# Altium schematic symbol library QCW_GDT_PCB.SCHLIB: 28 symbols
Pins are listed as number, name and electrical type; pins without a type are passive.

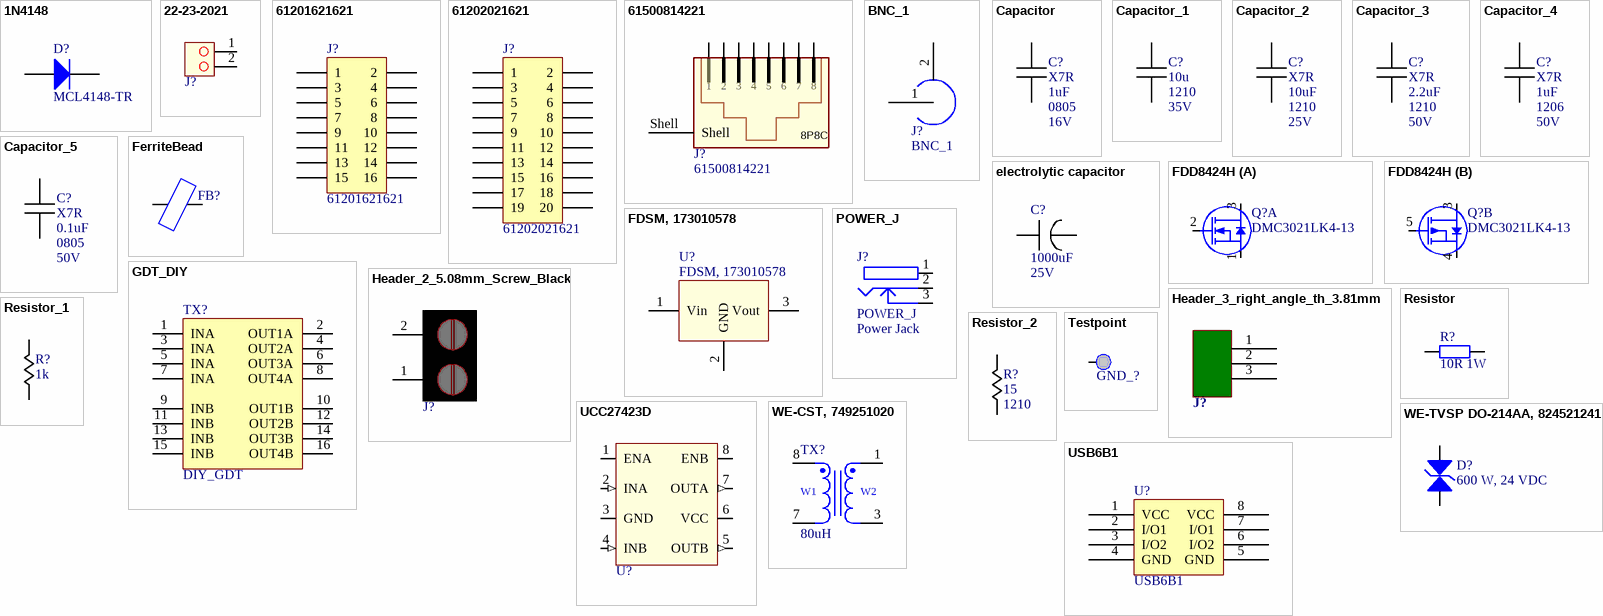
[diagram p0: symbols 1N4148 to WE-TVSP DO-214AA, 824521241]

## 1N4148
designator D?, comment MCL4148-TR
DIODE GEN 75V 150MA MICROMELF; Mouser Part: 78-MCL4148; Digikey Part: MCL4148CT-ND
footprint MicroMELF (MELF Diode, 2-Leads, Body 1.9x1.2mm, IPC Medium Density)
pins: A, K

## 22-23-2021
designator J?  (value not drawn)
Pin Header, 2 Position, Locking, .1 Centers
footprint 22-23-2021
pins: 1, 2

## 61201621621
designator J?
WR-BHD 2.54mm Male Box Header; Manufacturer: Wurth Elektronik; ComponentLink1 Description: Manufacturer; ComponentLink2 Description: Datasheet; NoPins: 16; Created Date: March 2016; partNo: 61201621621; ComponentLink1URL: http://www.we-online.com; ComponentLink2URL: http://katalog.we-online.de/em/datasheet/6120xx21621.pdf; Created by: Baojun Chen
footprint 61201621621 (16 pins, straight, gold plating)
pins: 1, 2, 3, 4, 5, 6, 7, 8, 9, 10, 11, 12, 13, 14, 15, 16

## 61202021621
designator J?
WR-BHD 2.54mm Male Box Header; Manufacturer: Wurth Elektronik; ComponentLink1 Description: Manufacturer; ComponentLink2 Description: Datasheet; NoPins: 20; Created Date: March 2016; partNo: 61202021621; ComponentLink1URL: http://www.we-online.com; ComponentLink2URL: http://katalog.we-online.de/em/datasheet/6120xx21621.pdf; Created by: Baojun Chen
footprint 61202021621 (20 pins, straight, gold plating)
pins: 1, 2, 3, 4, 5, 6, 7, 8, 9, 10, 11, 12, 13, 14, 15, 16, 17, 18, 19, 20

## 61500814221
designator J?
WR-MJ Modular Jack Horizontal Shielded 8P8C Tab Down; PublishedDate: July 2016; Publisher: Wurth Elektronik; ComponentLink1Description: Manufacturer; ComponentLink1URL: http://www.we-online.de; ComponentLink2Description: Datasheet; ComponentLink2URL: http://katalog.we-online.de/em/datasheet/61500814221.pdf; PartNumber: 61500814221; PinNumber: 8P8C
footprint 61500814221 (RJ45 Horizontal  Shielded  Tab down)
pins: 1, 2, 3, 4, 5, 6, 7, 8, Shell

## BNC_1
designator J?
BNC Connector; Value: =Value
footprint BNC_PLASTIC_ELBOW_SOCKET_WITH_MOUNTING_POSTS (Coaxial Connector, BNC Coaxial, Right Angle Jack, Solder)
pins: 1 Centre, 2 Shield

## Capacitor
designator C?, comment Material: X7R  Capacitance: 1uF  Package: 0805  Voltage: 16V  (hidden comment: CC0805KKX7R7BB105)
CAP CER 1UF 16V X7R 0805; Tolerance: 10%; Mouser Part: 603-CC805KKX7R7BB105; Digikey Part: 311-1365-1-ND
footprint 0402 (Chip Capacitor; Body 1.0 x 0.5 mm (LxW typ))
footprint 0603 (Chip Capacitor; Body 1.6 x 0.8 mm (LxW typ))
footprint 0805 (Chip Capacitor; Body 2.0 x 1.2 mm (LxW typ))
footprint 1206 (Chip Capacitor; Body 3.2 x 1.6 mm (LxW typ))
footprint 1210 (Chip Capacitor; Body 3.2 x 2.5 mm (LxW typ))
footprint 1812 (Chip Capacitor; Body 4.5 x 3.2 mm (LxW typ))
footprint 1825 (Chip Capacitor; Body 4.5 x 6.4 mm (LxW typ))
footprint 2220 (Chip Capacitor; Body 5.7 x 5.0 mm (LxW typ))
footprint 2225 (Chip Capacitor; Body 5.6 x 6.4 mm (LxW typ))
footprint 0805C
footprint 1206C
pins: 1, 2

## Capacitor_1
designator C?, comment Capacitance: 10u  package: 1210  voltage: 35V  (hidden comment: 885012209028)
tolerance: *; type: *; material: *
footprint 0805C
footprint 1210C (Chip Capacitor, 2-Leads, Body 3.2x2.5mm, IPC Medium Density)
footprint 1206C
footprint 2220C (Chip Capacitor, 2-Leads, Body 5.70x5.00mm, IPC Low Density)
footprint 1812C (Chip Capacitor, 2-Leads, Body 4.50x3.20mm, IPC Low Density)
footprint Cap_multi_footprint (Multiple footprint capacitor)
pins: 1, 2

## Capacitor_2
designator C?, comment Material: X7R  Capacitance: 10uF  Package: 1210  Voltage: 25V  (hidden comment: 885012209028)
CAP CER 10UF 25V X7R 1210; Tolerance: *; Mouser Part: 710-885012207094; Digikey Part: 732-7729-1-ND
footprint 0402 (Chip Capacitor; Body 1.0 x 0.5 mm (LxW typ))
footprint 0603 (Chip Capacitor; Body 1.6 x 0.8 mm (LxW typ))
footprint 0805 (Chip Capacitor; Body 2.0 x 1.2 mm (LxW typ))
footprint 1206 (Chip Capacitor; Body 3.2 x 1.6 mm (LxW typ))
footprint 1210C (Chip Capacitor, 2-Leads, Body 3.2x2.5mm, IPC Medium Density)
footprint 1812 (Chip Capacitor; Body 4.5 x 3.2 mm (LxW typ))
footprint 1825 (Chip Capacitor; Body 4.5 x 6.4 mm (LxW typ))
footprint 2220 (Chip Capacitor; Body 5.7 x 5.0 mm (LxW typ))
footprint 2225 (Chip Capacitor; Body 5.6 x 6.4 mm (LxW typ))
footprint 1206C
pins: 1, 2

## Capacitor_3
designator C?, comment Material: X7R  Capacitance: 2.2uF  Package: 1210  Voltage: 50V  (hidden comment: CGA6M3X7R1H225K200AB)
CAP ALUM 100UF 20% 16V RADIAL; Tolerance: 10%; Mouser Part: 810-CGA6M3X7R1H225K; Digikey Part: 445-5715-1-ND
footprint 0402 (Chip Capacitor; Body 1.0 x 0.5 mm (LxW typ))
footprint 0603 (Chip Capacitor; Body 1.6 x 0.8 mm (LxW typ))
footprint 0805 (Chip Capacitor; Body 2.0 x 1.2 mm (LxW typ))
footprint 1206 (Chip Capacitor; Body 3.2 x 1.6 mm (LxW typ))
footprint 1210 (Chip Capacitor; Body 3.2 x 2.5 mm (LxW typ))
footprint 1812 (Chip Capacitor; Body 4.5 x 3.2 mm (LxW typ))
footprint 1825 (Chip Capacitor; Body 4.5 x 6.4 mm (LxW typ))
footprint 2220 (Chip Capacitor; Body 5.7 x 5.0 mm (LxW typ))
footprint 2225 (Chip Capacitor; Body 5.6 x 6.4 mm (LxW typ))
footprint 1206C
footprint 1210C
pins: 1, 2

## Capacitor_4
designator C?, comment Material: X7R  Capacitance: 1uF  Package: 1206  Voltage: 50V  (hidden comment: GRM31MR71H105KA88L)
CAP CER 1UF 50V X7R 1206; Tolerance: 10%; Mouser Part: 81-GRM31MR71H105KA88; Digikey Part: 490-6527-1-ND
footprint 0402 (Chip Capacitor; Body 1.0 x 0.5 mm (LxW typ))
footprint 0603 (Chip Capacitor; Body 1.6 x 0.8 mm (LxW typ))
footprint 0805 (Chip Capacitor; Body 2.0 x 1.2 mm (LxW typ))
footprint 1206 (Chip Capacitor; Body 3.2 x 1.6 mm (LxW typ))
footprint 1210 (Chip Capacitor; Body 3.2 x 2.5 mm (LxW typ))
footprint 1812 (Chip Capacitor; Body 4.5 x 3.2 mm (LxW typ))
footprint 1825 (Chip Capacitor; Body 4.5 x 6.4 mm (LxW typ))
footprint 2220 (Chip Capacitor; Body 5.7 x 5.0 mm (LxW typ))
footprint 2225 (Chip Capacitor; Body 5.6 x 6.4 mm (LxW typ))
footprint 1206C
pins: 1, 2

## Capacitor_5
designator C?, comment Material: X7R  Capacitance: 0.1uF  Package: 0805  Voltage: 50V  (hidden comment: 08055C104JAT2A)
CAP CER 0.1UF 50V X7R 0805; Tolerance: *; Mouser Part: 581-08055C104J; Digikey Part: 478-3352-1-ND
footprint 0402 (Chip Capacitor; Body 1.0 x 0.5 mm (LxW typ))
footprint 0603 (Chip Capacitor; Body 1.6 x 0.8 mm (LxW typ))
footprint 0805 (Chip Capacitor; Body 2.0 x 1.2 mm (LxW typ))
footprint 1206 (Chip Capacitor; Body 3.2 x 1.6 mm (LxW typ))
footprint 1210C (Chip Capacitor, 2-Leads, Body 3.2x2.5mm, IPC Medium Density)
footprint 1812 (Chip Capacitor; Body 4.5 x 3.2 mm (LxW typ))
footprint 1825 (Chip Capacitor; Body 4.5 x 6.4 mm (LxW typ))
footprint 2220 (Chip Capacitor; Body 5.7 x 5.0 mm (LxW typ))
footprint 2225 (Chip Capacitor; Body 5.6 x 6.4 mm (LxW typ))
footprint 1206C
footprint 0805C
pins: 1, 2

## electrolytic capacitor
designator C?, comment Capacitance: 1000uF  Voltage: 25V  (hidden comment: EEU-FM1E102)
CAP ALUM 1000UF 20% 25V RADIAL; Mouser Part: 667-EEU-FM1E102; Digikey Part: P12379-ND
footprint B43231A9686M000
footprint 12.5mm lytic
footprint 5mm lytic
footprint 6.3MM LYTIC
pins: 1, 2

## FDD8424H
designator Q?, comment DMC3021LK4-13
MOSFET N/P-CH 30V TO252-4L; Mouser Part: 621-DMC3021LK4-13; Digikey Part: DMC3021LK4-13DICT-ND
footprint TO-252 (TO-252 PACKAGE)
part A pins: 1 S1, 2 G1, 3 D1/D2
part B pins: 3 D1/D2, 4 S2, 5 G2

## FDSM, 173010578
designator U?
MagI³C-FDSM Fixed Step Down Regulator Module; InputVoltage: 8-28V; OutputCurrent: 1A; PublishedDate: Aug 2016; Publisher: Wurth Elektronik; ComponentLink1Description: Manufacturer; ComponentLink1URL: http://www.we-online.de; ComponentLink2Description: Datasheet; ComponentLink2URL: http://katalog.we-online.de/pm/datasheet/173010578.pdf; PartNumber: 173010578; Size: SIP-3
footprint WE-FDSM_173010x78 (SIP-3, Body 11.6x8.5x10.5)
pins: 1 Vin, 2 GND, 3 Vout

## FerriteBead
designator FB?  (value not drawn)
Ferrite Bead
footprint 0805FB
pins: 1, 2

## GDT_DIY
designator TX?, comment DIY_GDT
DIY Gate Drive TX on 36x22x14 toroid
footprint GDT_DIY (DIY GDT with termination)
pins: 1 INA, 2 OUT1A, 3 INA, 4 OUT2A, 5 INA, 6 OUT3A, 7 INA, 8 OUT4A, 9 INB, 10 OUT1B, 11 INB, 12 OUT2B, 13 INB, 14 OUT3B, 15 INB, 16 OUT4B

## Header_2_5.08mm_Screw_Black
designator J?  (value not drawn)
2-way PCB connector; Value: =Value
footprint 1776119-2 (2 PIN PCB MOUNT WIRE TERMINAL Black)
pins: 1, 2

## Header_3_right_angle_th_3.81mm
designator J?  (value not drawn)
3-way header; Component_Replaceability: B; Component_Description: 3 Way right angle through hole 3.81mm header (green); Datasheet_Link: http://katalog.we-online.de/em/datasheet/6913223100xx.pdf; Digikey_Code: 732-2089-ND; Farnell_Code: 1642013; Category: Connectors
footprint 691322310003
pins: 1, 2, 3

## POWER_J
designator J?  value Power Jack
Low Voltage Power Supply Connector; Part_Number: OVC-CON-10108; Published: 17-Dec-2003; DatasheetDocument: 09-May-2002; Publisher: Altium Limited; ComponentLink1Description: Manufacturer Link; ComponentLink1URL: http://domino.kycon.com/internet/Products.html
footprint KLD-0202 (DC Power Jack, 2.5mm, KLD Series, PCB Mount)
signal-integrity model Connector
footprint POWER_J_SLOT
pins: 1 (power), 2 (power), 3 (power)

## Resistor
designator R?, comment 10R 1W
Power: *; Tolerance: *
footprint 1206R
footprint 1210R
footprint 0805R
footprint 0.5WTHResistor
footprint 2WTHResistor
footprint RES_2512 (Chip Resistor 2512, 2-Leads, Body 6.40x3.20mm, IPC Medium Density)
footprint Res_Radial_2W (2W resistor radial mount)
pins: 1, 2

## Resistor_1
designator R?, comment Resistance: 1k  (hidden comment: RC0805FR-071KL)
RES SMD 1K OHM 1% 1/8W 0805; Power: 0.125W; Package: 0805; Tolerance: 1%; Mouser Part: 603-RC0805FR-071KL; Digikey Part: 311-1.00KCRCT-ND
footprint 1/2W leaded (Footprint not found)
footprint 1206R
footprint 1210R
footprint 0805R
pins: 1, 2

## Resistor_2
designator R?, comment Resistance: 15  Package: 1210  (hidden comment: CRCW121015R0JNEAHP)
RES SMD 15 OHM 5% 3/4W 1210; Power: 750mW; Tolerance: 5%; Mouser Part: 71-CRCW121015R0JNEAH; Digikey Part: 541-15NCT-ND
footprint 0402 (Chip Capacitor; Body 1.0 x 0.5 mm (LxW typ))
footprint 0603 (Chip Capacitor; Body 1.6 x 0.8 mm (LxW typ))
footprint 0805 (Chip Capacitor; Body 2.0 x 1.2 mm (LxW typ))
footprint 1206 (Chip Capacitor; Body 3.2 x 1.6 mm (LxW typ))
footprint 1210 (Chip Capacitor; Body 3.2 x 2.5 mm (LxW typ))
footprint 1812 (Chip Capacitor; Body 4.5 x 3.2 mm (LxW typ))
footprint 1825 (Chip Capacitor; Body 4.5 x 6.4 mm (LxW typ))
footprint 2220 (Chip Capacitor; Body 5.7 x 5.0 mm (LxW typ))
footprint 2225 (Chip Capacitor; Body 5.6 x 6.4 mm (LxW typ))
footprint 1/2W leaded (Footprint not found)
footprint CMF60100R00JKEA (Resistor, 100 Ohm, 500V, 1/2W, 5%)
footprint 1206R
footprint 1210R
pins: 1, 2

## Testpoint
designator GND_?  (value not drawn)  (no BOM)
Digikey Part: *; Mouser Part: *
footprint testpoint (.1" header test point)
footprint Keystone5002 (Keystone 5002 White Testpoint)
footprint Keystone5001 (Keystone 5001 Black Testpoint)
footprint Keystone5016 (Keystone 5016 Green Testpoint)
footprint Keystone5000 (Keystone 5000 Red Testpoint)
footprint Keystone5003 (Keystone 5003 Orange Testpoint)
footprint Keystone5004 (Keystone 5004 Yellow Testpoint)
pins: 1

## UCC27423D
designator U?, comment MIC4126YME  (value not drawn)
IC DRIVER MOSFET 1.5A DUAL 8SOIC; Mouser Part: 998-MIC4126YME; Digikey Part: 576-1185-ND
footprint SOIC-8 (SOIC 8 PACKAGE)
pins: 1 ENA (power), 2 INA (in) "IN", 3 GND, 4 INB (in), 5 OUTB (out), 6 VCC, 7 OUTA (out), 8 ENB

## USB6B1
designator U?
USB Data Line Protection; Letechnic p/n: 6400026; Status: Fitted
footprint SOIC-8 (Tall SO-8)
pins: 1 VCC, 2 I/O1, 3 I/O2, 4 GND, 5 GND, 6 I/O2, 7 I/O1, 8 VCC

## WE-CST, 749251020
designator TX?, comment 80uH
WE-CST Current Sense Transformer, EE5, 80uH; PartNumber: 749251020; TurnsRatio: 1:20; RatedVoltage: 500V(AC); PublishedDate: Aug 2016; Publisher: Wurth Elektronik; ComponentLink1Description: Manufacturer; ComponentLink1URL: http://www.we-online.de; ComponentLink2Description: Datasheet; ComponentLink2URL: http://katalog.we-online.de/pbs/datasheet/749251020.pdf; Value: 80uH; Size: EE5
footprint WE-CST_EE5
pins: 1, 3, 7, 8
text: W1; W2

## WE-TVSP DO-214AA, 824521241
designator D?, comment 600 W, 24 VDC
WE-TVSP Power TVS Diode, bidirectional, 600 W, 24 VDC; partNo: 824521241; Manufacturer: Wurth Elektronik; ComponentLink1Description: Manufacturer; ComponentLink1URL: http://www.we-online.de; Created by: Baojun Chen; Created Date: Nov.2015; ComponentLink2Description: Datasheet; ComponentLink2URL: http://katalog.we-online.de/pbs/datasheet/824521241.pdf
footprint DO-214AA_Bidirectional
pins: 1, 2